# Altium footprint library smd resistor 4x2mm.PcbLib: 1 footprints
Each footprint in its own frame and in the unit in brackets; x right, y up, seen from the top. Pads: shape width x height; smd on the part's side, far side on the other; paste and mask are expansions set on the pad; w line width, h text height; cw(c..) or ccw(c..) is an arc to the next point about the centre after c.
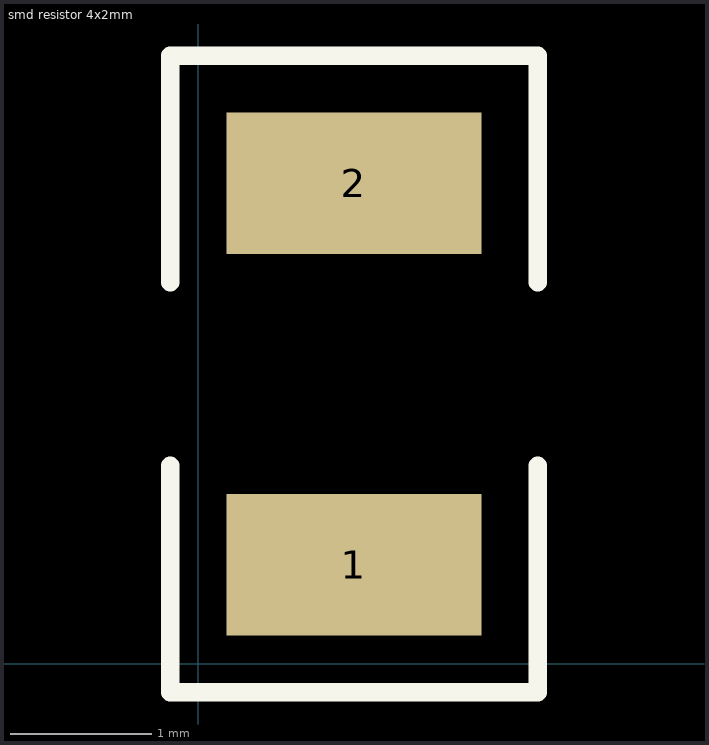
[diagram p0: the footprint, top view; thin cyan lines are the x and y axes]

## smd resistor 4x2mm [mm]
pads (2):
  rect 1.8x1 smd: 1(1.1,0.7) 2(1.1,3.4)
Top Overlay:
  lines w0.13: -0.2,1.4 -0.2,0 -0.2,-0.2 2.4,-0.2 2.4,0 2.4,1.4 ; -0.2,2.7 -0.2,4.3 2.4,4.3 2.4,2.7